# EAGLE library part 3X2_SMD_RIGHT_ANGLE_HEADER (library ZippyComponentLibrary)
"Provides a soldering placement for a 3x2 right-angle header."
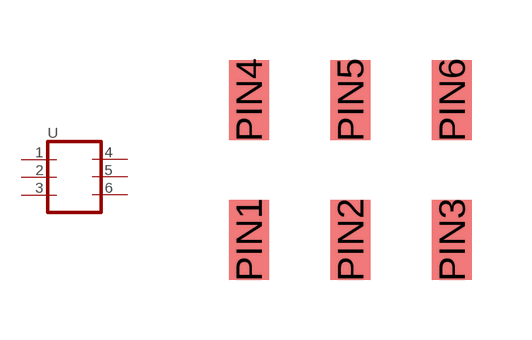
[diagram p0: symbol with the pads of M20-7920342R; footprint M20-7920342R]

Designator prefix -

## 3X2_SMD_RIGHT_ANGLE_HEADER  [M20-7920342R]
PIN1  1
PIN2  2
PIN3  3
PIN4  4
PIN5  5
PIN6  6

## Footprint M20-7920342R (pad centres in mm)
"Soldering placeholder for Harwin part # M20-7920342R. Available from Digi-Key as part # 952-3203-6-ND."
smd 1 x 2: PIN1 -2.54,-1.75; PIN2 0,-1.75; PIN3 2.54,-1.75; PIN4 -2.54,1.75; PIN5 0,1.75; PIN6 2.54,1.75